# Altium schematic symbol library TSW-106-07-S-S-LL.SchLib: 1 symbol
Pins are listed as number, name and electrical type; pins without a type are passive.

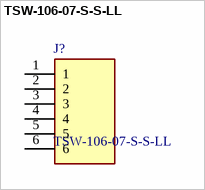
[diagram p0: symbol TSW-106-07-S-S-LL]

## TSW-106-07-S-S-LL
designator J?
CONN HEADER 6 POS .100"; Manufacturer_Name: SAMTEC; Geometry.Height: 8.38mm; Manufacturer_Part_Number: TSW-106-07-S-S-LL; Mouser Part Number: 200-TSW10607SSLL; Mouser Price/Stock: https://www.mouser.co.uk/ProductDetail/Samtec/TSW-106-07-S-S-LL?qs=rU5fayqh%252BE10aYBI%252BwvgeA%3D%3D; Arrow Part Number: TSW-106-07-S-S-LL; Arrow Price/Stock: https://www.arrow.com/en/products/tsw-106-07-s-s-ll/samtec?region=nac; Datasheet Link: http://suddendocs.samtec.com/catalog_english/tsw_th.pdf
footprint HDRV6W64P254_1X6_1524X241X838P
pins: 1, 2, 3, 4, 5, 6